# EAGLE library part LPS25HBTR (library LPS25HBTR)
Board Mount Pressure Sensors HESA MICROSYSTEM Source: Datasheet <http://www.st.com/st-web-ui/static/active/en/resource/technical/document/datasheet/DM00141379.pdf>
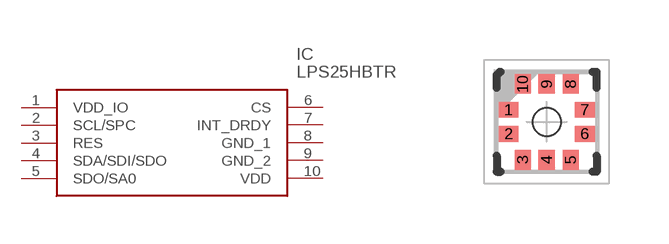
[diagram p0: symbol with the pads of PQFN60P250X250X80-10N; footprint PQFN60P250X250X80-10N]

Designator prefix IC

## LPS25HBTR (Description: Board Mount Pressure Sensors HESA MICROSYSTEM; Height: 0.8mm; Manufacturer_Name: STMicroelectronics; Manufacturer_Part_Number: LPS25HBTR; Mouser_Part_Number: 511-LPS25HBTR; Mouser_Price-Stock: https://www.mouser.com/Search/Refine.aspx?Keyword=511-LPS25HBTR; RS_Part_Number: 1106550P; RS_Price-Stock: http://uk.rs-online.com/web/p/products/1106550P)  [PQFN60P250X250X80-10N]
1  VDD_IO  pwr
2  SCL/SPC
3  RES
4  SDA/SDI/SDO
5  SDO/SA0
6  CS  in
7  INT_DRDY  in
8  GND_1  pwr
9  GND_2  pwr
10  VDD  pwr

## Footprint PQFN60P250X250X80-10N (pad centres in mm)
HLGA-10L
smd 0.5 x 0.4: 1 -0.95,0.3; 2 -0.95,-0.3; 6 0.95,-0.3; 7 0.95,0.3
smd 0.4 x 0.5: 3 -0.6,-0.95; 4 0,-0.95; 5 0.6,-0.95; 8 0.6,0.95; 9 0,0.95; 10 -0.6,0.95